# Altium footprint library LED SMD 1206.PcbLib: 1 footprints
Each footprint in its own frame and in the unit in brackets; x right, y up, seen from the top. Pads: shape width x height; smd on the part's side, far side on the other; paste and mask are expansions set on the pad; w line width, h text height; cw(c..) or ccw(c..) is an arc to the next point about the centre after c.
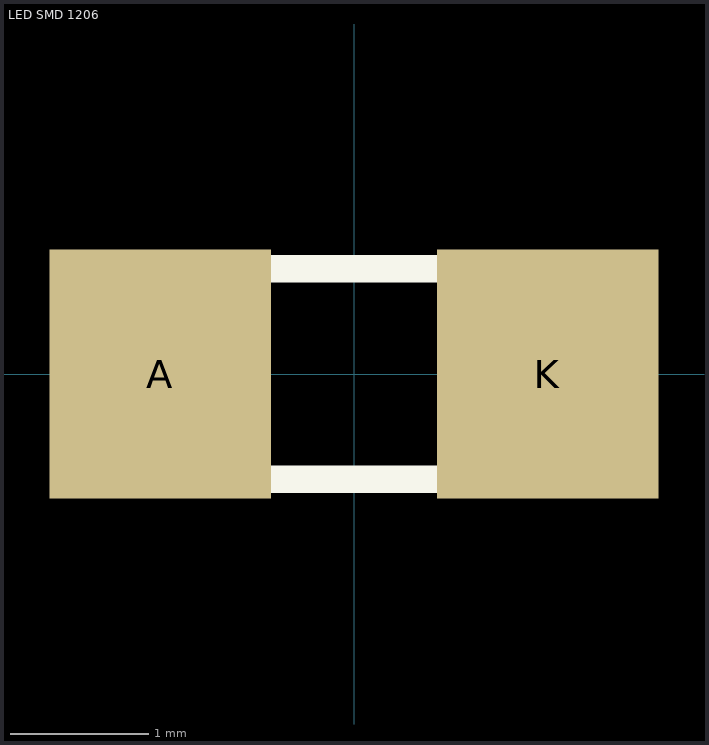
[diagram p0: the footprint, top view; thin cyan lines are the x and y axes]

## LED SMD 1206 [mm] "LED SMD 1206"
pads (2):
  rect 1.6x1.8 smd: A(-1.4,0) K(1.4,0)
Top Overlay:
  lines w0.2: -1.5,-0.762 -1.5,0.762 1.5,0.762 1.5,-0.762 -1.5,-0.762
3D body "LED SMD-1206.step": height 1.1, standoff 0, extent -1.549,-0.762 1.651,0.838